# Altium footprint library Net173.PcbLib: 25 footprints (part 1 of 2)
Each footprint in its own frame and in the unit in brackets; x right, y up, seen from the top. Pads: shape width x height; smd on the part's side, far side on the other; paste and mask are expansions set on the pad; w line width, h text height; cw(c..) or ccw(c..) is an arc to the next point about the centre after c.
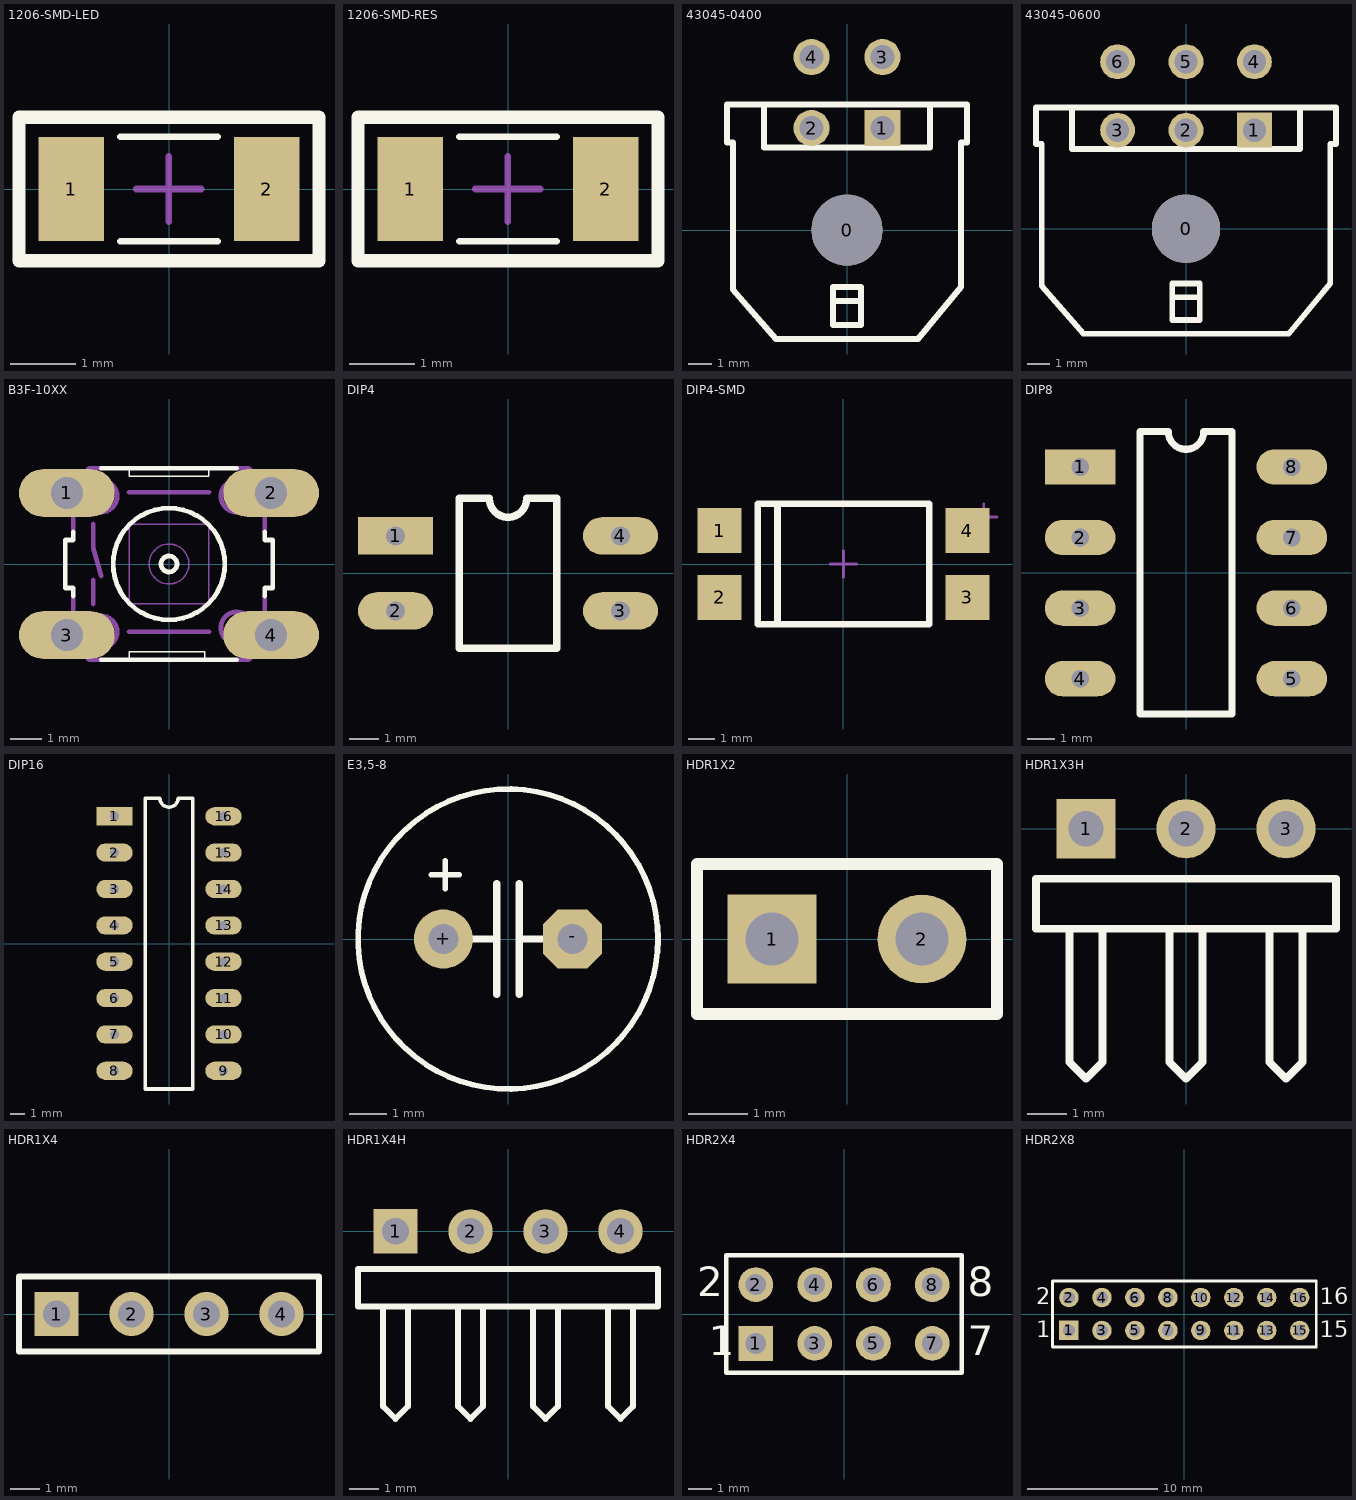
[diagram p0: the footprints below, top view; thin cyan lines are the x and y axes]

## 1206-SMD-LED [mm]
pads (2):
  rect 1x1.6 smd: 1(-1.5,0) 2(1.5,0)
Top Overlay:
  lines w0.1: -0.75,-0.8 0.75,-0.8 ; -0.75,0.8 0.75,0.8
  lines w0.2: -2.3,-1.1 -2.3,1.1 2.3,1.1 2.3,-1.1 -2.3,-1.1
Mechanical 15:
  lines w0.1: -0.503,0 0.497,0 ; -0.003,-0.5 -0.003,0.5 ; -2.3,-1.1 -2.3,1.1 2.3,1.1 2.3,-1.1 -2.3,-1.1
3D body "User Library-LED 1206 RED.STEP": height 1.11, standoff 0.01, extent -1.6,-0.8 1.6,0.8

## 1206-SMD-RES [mm]
pads (2):
  rect 1x1.6 smd: 1(-1.5,0) 2(1.5,0)
Top Overlay:
  lines w0.1: -0.75,-0.8 0.75,-0.8 ; -0.75,0.8 0.75,0.8
  lines w0.2: -2.3,-1.1 -2.3,1.1 2.3,1.1 2.3,-1.1 -2.3,-1.1
Mechanical 15:
  lines w0.1: -0.503,0 0.497,0 ; -0.003,-0.5 -0.003,0.5 ; -2.3,-1.1 -2.3,1.1 2.3,1.1 2.3,-1.1 -2.3,-1.1
3D body "SW3dPS-1206 SMD Resistor.STEP": height 1.01, standoff 0.01, extent -1.6,-0.8 1.6,0.8

## 43045-0400 [mm]
pads (5):
  round 3 hole 3 unplated: 0(0,0)
  rect 1.53x1.53 hole 1.02: 1(1.5,4.32)
  round 1.53 hole 1.02: 2(-1.5,4.32) 3(1.5,7.32) 4(-1.5,7.32)
Top Overlay:
  lines w0.254: -3.5,5.31 -3.5,3.5 3.5,3.5 3.5,5.31 ; -3.5,5.31 3.5,5.31 ; -3.5,5.31 -5.08,5.31 -5.08,3.71 -4.825,3.71 -4.825,-2.5 -3,-4.6 3,-4.6 4.825,-2.4 4.825,3.71 5.08,3.71 5.08,5.31 3.5,5.31 ; -0.6,-3 0.6,-3 ; -0.6,-3 -0.6,-2.4 0.6,-2.4 0.6,-3 ; -0.6,-3 -0.6,-4 0.6,-4 0.6,-3
3D body "User Library-molex43045-0400_.STEP": height 8.78, standoff -3.17, extent -5.075,-4.6 5.075,7.64

## 43045-0600 [mm]
pads (7):
  round 3 hole 3 unplated: 0(0,0)
  rect 1.53x1.53 hole 1.02: 1(3,4.32)
  round 1.53 hole 1.02: 2(0,4.32) 3(-3,4.32) 4(3,7.32) 5(0,7.32) 6(-3,7.32)
Top Overlay:
  lines w0.127: -4.83,5.31 -5,5.31 -4.825,5.31
  lines w0.254: -5,5.31 -5,3.5 5,3.5 5,5.31 ; -5,5.31 5,5.31 ; -5,5.31 -6.575,5.31 -6.575,3.71 -6.325,3.71 -6.325,-2.5 -4.5,-4.6 4.5,-4.6 6.325,-2.4 6.325,3.71 6.575,3.71 6.575,5.31 5,5.31 ; -0.6,-3 0.6,-3 ; -0.6,-3 -0.6,-2.4 0.6,-2.4 0.6,-3 ; -0.6,-3 -0.6,-4 0.6,-4 0.6,-3
3D body "User Library-molex43045-0600_.STEP": height 8.78, standoff -3.17, extent -6.575,-4.6 6.575,7.64

## B3F-10XX [mil]
pads (4):
  oval 120x60 hole 40: 1(-128,89) 2(128,89) 3(-128,-89) 4(128,-89)
Top Overlay:
  circle w6: c0,0 r10
  circle w6: c0,0 r70
  lines w2: -50,-120 -50,-110 45,-110 45,-120 ; -50,120 -50,110 50,110 50,120
  lines w6: -120,-40 -120,-30 -130,-30 -130,30 -120,30 -120,40 ; -85,-120 -50,-120 45,-120 85,-120 ; -85,120 -50,120 50,120 85,120 ; 120,-40 120,-30 130,-30 130,30 120,30 120,40
Mechanical 16:
  circle w2: c0,0 r25
  circle w6: c-85,85 r20
  circle w6: c85,85 r20
  circle w6: c85,-80 r20
  circle w6: c-85,-85 r20
  lines w2: -50,-50 50,-50 50,50 -50,50 -50,-50
  lines w6: -120,-40 -120,-100 -100,-120 -85,-120 ; -120,40 -120,100 -100,120 -85,120 ; -95,-50 -95,-20 ; -95,50 -95,20 -85,-15 ; -50,-85 50,-85 ; -50,90 50,90 ; 85,-120 100,-120 120,-100 120,-40 ; 85,120 100,120 120,100 120,40
  text "4" at 140,-110 h77.5
  text "3" at -180,-110 h77.5
  text "2" at 140,60 h77.5
  text "1" at -170,65 h77.5
3D body "b3f-1005.STEP": height 169.79, standoff -137.29, extent -151.58,-118.11 151.57,118.11

## DIP4 [mil]
pads (4):
  rect 100x50 hole 25: 1(-150,49.64)
  oval 100x50 hole 25: 2(-150,-50.36) 3(150,-50.36) 4(150,49.64)
Top Overlay:
  lines w10: -65,-100.36 65,-100.36 65,99.64 25,99.64 cw(c0,99.64) -25,99.64 -65,99.64 -65,-100.36
3D body "DIP4.STEP": height 169.29, standoff -106.3, extent -155.12,-90.36 155.12,90.36

## DIP4-SMD [mm]
pads (4):
  rect 1.68x1.71 smd: 1(-4.7,1.27) 2(-4.7,-1.27) 3(4.7,-1.27) 4(4.7,1.27)
Top Overlay:
  lines w0.254: -2.5,-2.29 -2.5,2.29 ; -3.25,-2.29 -3.25,2.29 3.25,2.29 3.25,-2.29 -3.25,-2.29
Mechanical 15:
  lines w0.1: -0.5,0 0.5,0 ; 0,-0.5 0,0.5 ; 4.822,1.784 5.822,1.784 ; 5.322,1.284 5.322,2.284
3D body "PC817.STEP": height 4.61, standoff 0.01, extent -5.23,-2.55 5.23,2.55

## DIP8 [mil]
pads (8):
  rect 100x50 hole 25: 1(-150,150)
  oval 100x50 hole 25: 2(-150,50) 3(-150,-50) 4(-150,-150) 5(150,-150) 6(150,-50) 7(150,50) 8(150,150)
Top Overlay:
  lines w10: -65,-200 65,-200 65,200 25,200 cw(c0,200) -25,200 -65,200 -65,-200
3D body "DIP8.STEP": height 165, standoff -105, extent -154.99,-224.99 155,225

## DIP16 [mil]
pads (16):
  rect 100x50 hole 25: 1(-150,350)
  oval 100x50 hole 25: 2(-150,250) 3(-150,150) 4(-150,50) 5(-150,-50) 6(-150,-150) 7(-150,-250) 8(-150,-350) 9(150,-350) 10(150,-250) 11(150,-150) 12(150,-50) 13(150,50) 14(150,150) 15(150,250) 16(150,350)
Top Overlay:
  lines w10: -65,-400 65,-400 65,400 25,400 cw(c0,400) -25,400 -65,400 -65,-400
3D body "SW3DPS-DIP16-DEFAULT.STEP": height 165, standoff -101, extent -155,-425 155,425

## E3,5-8 [mil]
pads (2):
  round 63 hole 32: +(-68.9,0)
  oct 63x63 hole 32: -(68.9,0)
Top Overlay:
  circle w6: c0,0 r160
  lines w6: -81.93,68.62 -51.93,68.62 ; -66.93,53.62 -66.93,83.62
  lines w7.87: -39.37,0 -15.75,0 ; -11.81,-59.06 -11.81,59.06 ; 11.81,-59.06 11.81,59.06 ; 15.75,0 39.37,0
3D body "User Library-Cap-EL(8x12-3_5)T_.STEP": height 484.33, standoff -129.92, extent -157.52,-157.48 157.52,157.48

## HDR1X2 [mm] "Connector; Header; 2 Position"
pads (2):
  rect 1.5x1.5 hole 0.9: 1(-1.27,0)
  round 1.5 hole 0.9: 2(1.27,0)
Top Overlay:
  lines w0.2: -2.54,-1.27 2.54,-1.27 2.54,1.27 -2.54,1.27 -2.54,-1.27
3D body "hdr2.STEP": height 8.61, standoff -2.99, extent -2.54,-1.27 2.54,1.27

## HDR1X3H [mm] "Connector; Header; 3 Position; Right Angle"
pads (3):
  rect 1.5x1.5 hole 0.9: 1(-2.54,0)
  round 1.5 hole 0.9: 2(0,0) 3(2.54,0)
Top Overlay:
  lines w0.2: -2.963,-2.54 -2.963,-5.927 -2.54,-6.35 -2.117,-5.927 -2.117,-2.54 ; -0.423,-2.54 -0.423,-5.927 0,-6.35 0.423,-5.927 0.423,-2.54 ; 2.117,-2.54 2.117,-5.927 2.54,-6.35 2.963,-5.927 2.963,-2.54 ; -3.81,-2.54 3.81,-2.54 3.81,-1.27 -3.81,-1.27 -3.81,-2.54
3D body "hdr3a.STEP": height 2.55, standoff -3.12, extent -3.81,-10.3 3.81,0.32

## HDR1X4 [mm] "Connector; Header; 4 Position"
pads (4):
  rect 1.5x1.5 hole 0.9: 1(-3.81,0)
  round 1.5 hole 0.9: 2(-1.27,0) 3(1.27,0) 4(3.81,0)
Top Overlay:
  lines w0.2: -5.08,-1.27 -5.08,1.27 5.08,1.27 5.08,-1.27 -5.08,-1.27
3D body "hdr4.STEP": height 9.11, standoff -2.49, extent -5.08,-1.27 5.08,1.27

## HDR1X4H [mm] "Connector; Header; 4 Position; Right Angle"
pads (4):
  rect 1.5x1.5 hole 0.9: 1(-3.81,0)
  round 1.5 hole 0.9: 2(-1.27,0) 3(1.27,0) 4(3.81,0)
Top Overlay:
  lines w0.2: -4.233,-2.54 -4.233,-5.927 -3.81,-6.35 -3.387,-5.927 -3.387,-2.54 ; -1.693,-2.54 -1.693,-5.927 -1.27,-6.35 -0.847,-5.927 -0.847,-2.54 ; 0.847,-2.54 0.847,-5.927 1.27,-6.35 1.693,-5.927 1.693,-2.54 ; 3.387,-2.54 3.387,-5.927 3.81,-6.35 4.233,-5.927 4.233,-2.54 ; -5.08,-2.54 -5.08,-1.27 5.08,-1.27 5.08,-2.54 -5.08,-2.54
3D body "hdr4a.STEP": height 2.55, standoff -3.12, extent -5.08,-10.3 5.08,0.32

## HDR2X4 [mm] "Connector; Header; 4x2 Position"
pads (8):
  rect 1.5x1.5 hole 0.9: 1(-3.81,-1.27)
  round 1.5 hole 0.9: 2(-3.81,1.27) 3(-1.27,-1.27) 4(-1.27,1.27) 5(1.27,-1.27) 6(1.27,1.27) 7(3.81,-1.27) 8(3.81,1.27)
Top Overlay:
  lines w0.2: -5.08,-2.54 -5.08,2.54 5.08,2.54 5.08,-2.54 -5.08,-2.54
  text "8" at 5.334,0.762 h1.27
  text "7" at 5.334,-1.778 h1.27
  text "1" at -5.842,-1.778 h1.27
  text "2" at -6.35,0.762 h1.27
3D body "hdr2x4.STEP": height 8.61, standoff -2.99, extent -5.08,-2.54 5.08,2.54

## HDR2X8 [mm] "Connector; Header; 8x2 Position"
pads (16):
  rect 1.5x1.5 hole 0.9: 1(-8.89,-1.27)
  round 1.5 hole 0.9: 2(-8.89,1.27) 3(-6.35,-1.27) 4(-6.35,1.27) 5(-3.81,-1.27) 6(-3.81,1.27) 7(-1.27,-1.27) 8(-1.27,1.27) 9(1.27,-1.27) 10(1.27,1.27) 11(3.81,-1.27) 12(3.81,1.27) 13(6.35,-1.27) 14(6.35,1.27) 15(8.89,-1.27) 16(8.89,1.27)
Top Overlay:
  lines w0.2: -10.16,-2.54 -10.16,2.54 10.16,2.54 10.16,-2.54 -10.16,-2.54
  text "2" at -11.43,0.762 h1.27
  text "1" at -11.43,-1.778 h1.27
  text "15" at 10.414,-1.778 h1.27
  text "16" at 10.414,0.762 h1.27
3D body "hdr2x8.STEP": height 8.61, standoff -2.99, extent -10.16,-2.54 10.16,2.54